# Altium footprint library BTS6133D.PcbLib: 1 footprints
Each footprint in its own frame and in the unit in brackets; x right, y up, seen from the top. Pads: shape width x height; smd on the part's side, far side on the other; paste and mask are expansions set on the pad; w line width, h text height; cw(c..) or ccw(c..) is an arc to the next point about the centre after c.
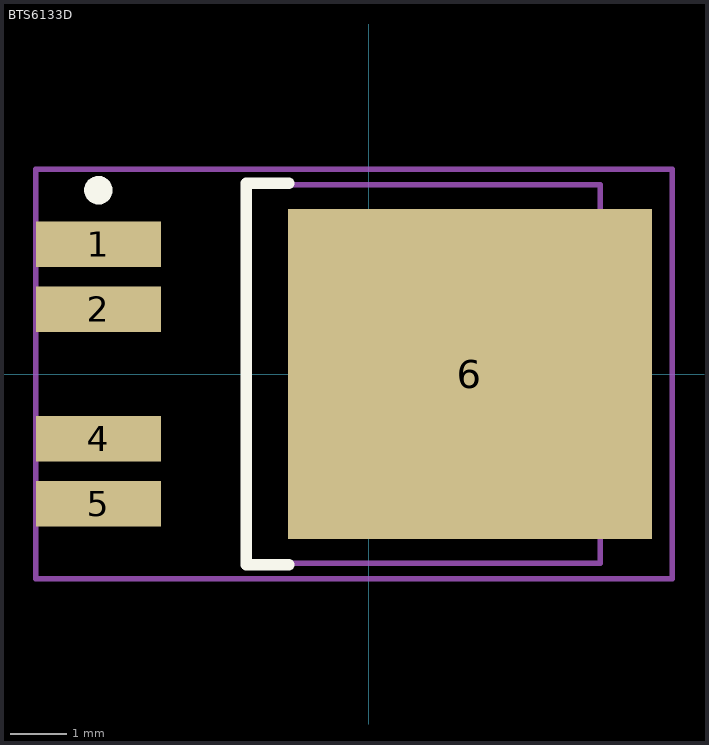
[diagram p0: the footprint, top view; thin cyan lines are the x and y axes]

## BTS6133D [mm] "INFINEON - BTS6133D - IC, PROFET, P-TO252-5"
height 2.35
pads (5):
  rect 2.2x0.8 smd: 1(-4.75,2.28) 2(-4.75,1.14) 4(-4.75,-1.14) 5(-4.75,-2.28)
  rect 6.4x5.8 smd: 6(1.778,0)
Top Overlay:
  circle w0.25: c-4.75,3.23 r0.125
  lines w0.2: -1.4,-3.35 -2.15,-3.35 -2.15,3.35 -1.4,3.35
Mechanical 13:
  lines w0.1: -2.15,-3.325 4.07,-3.325 4.07,3.325 -2.15,3.325 -2.15,-3.325
Mechanical 15:
  lines w0.1: -0.5,0 0.5,0 ; 0,-0.5 0,0.5 ; -5.85,-3.6 5.334,-3.6 5.334,3.6 -5.85,3.6 -5.85,-3.6
3D body: height 2.35, standoff 0.1, extent -2.15,-3.325 4.07,3.325